# Altium schematic symbol library Chip_Passives.SchLib: 74 symbols
Pins are listed as number, name and electrical type; pins without a type are passive.

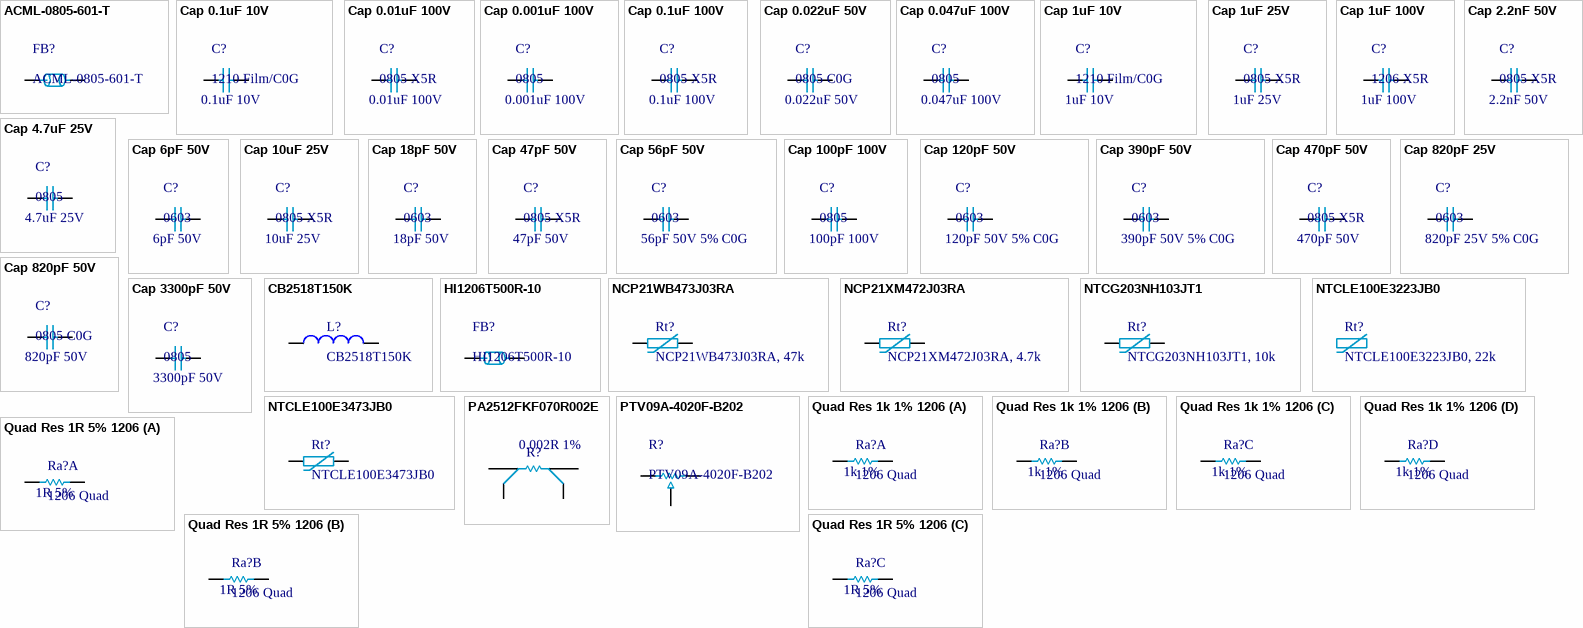
[diagram p0: symbols ACML-0805-601-T to Quad Res 1R 5% 1206]

## ACML-0805-601-T
designator FB?
FERRITE BEAD 600 OHM 0805 1LN; Value: Ferrite Bead 600R; Supplier 1: Digi-Key; Supplier Part Number 1: 535-12556-1-ND
footprint 0805 (Chip Capacitor, 2-Leads, Body 2.0x1.3mm, IPC Medium Density)
pins: 1, 2

## Cap 0.1uF 10V
designator C?, comment 1210 Film/C0G  value 0.1uF 10V
1210, Film or C0G
footprint 1210
pins: 1, 2

## Cap 0.01uF 100V
designator C?, comment 0805 X5R  value 0.01uF 100V
0805, X5R or better; Supplier 1: Digi-Key; Supplier Part Number 1: 1276-6845-2-ND; Supplier 2: Arrow; Supplier Part Number 2: HFLC7Kmwq4-6R2SVzaQAUvCwxvZH1YjWdj_EBba1ByE
footprint 0805 (Chip Capacitor, 2-Leads, Body 2.0x1.3mm, IPC Medium Density)
pins: 1, 2

## Cap 0.001uF 100V
designator C?, comment 0805  value 0.001uF 100V
0805, X5R or better; Supplier 1: Digi-Key; Supplier Part Number 1: 1276-2426-1-ND; Supplier 2: Digi-Key; Supplier Part Number 2: 1276-2426-2-ND; Supplier 3: Arrow; Supplier Part Number 3: L5XIfgkrxsBQF2sGZ85JNyFE59-nywaq7sHwLppiklbTEIlO4Ffw3x4_A6bjf4Mm
footprint 0805 (Chip Capacitor, 2-Leads, Body 2.0x1.3mm, IPC Medium Density)
pins: 1, 2

## Cap 0.1uF 100V
designator C?, comment 0805 X5R  value 0.1uF 100V
0805, X5R or better; Supplier 1: Digi-Key; Supplier Part Number 1: 1276-6840-2-ND
footprint 0805 - TALL (Same as 0805 footprint, but solder mask is adjusted to leave more paste behind for tall (>0.9mm) components like big caps, which tend to be solder-starved on the regular footprint.)
pins: 1, 2

## Cap 0.022uF 50V
designator C?, comment 0805 C0G  value 0.022uF 50V
0805, C0G; Supplier 1: Mouser; Supplier Part Number 1: 810-C2012C0G1H223J
footprint 0805 - TALL (Same as 0805 footprint, but solder mask is adjusted to leave more paste behind for tall (>0.9mm) components like big caps, which tend to be solder-starved on the regular footprint.)
pins: 1, 2

## Cap 0.047uF 100V
designator C?, comment 0805  value 0.047uF 100V
0805, X5R or better
footprint 0805 (Chip Capacitor, 2-Leads, Body 2.0x1.3mm, IPC Medium Density)
pins: 1, 2

## Cap 1uF 10V
designator C?, comment 1210 Film/C0G  value 1uF 10V
1210, Film or C0G
footprint 1210
pins: 1, 2

## Cap 1uF 25V
designator C?, comment 0805 X5R  value 1uF 25V
0805, X5R or better; Supplier 1: Digi-Key; Supplier Part Number 1: 1276-1066-2-ND; Supplier 2: Digi-Key; Supplier Part Number 2: 1276-1066-1-ND
footprint 0805 - TALL (Same as 0805 footprint, but solder mask is adjusted to leave more paste behind for tall (>0.9mm) components like big caps, which tend to be solder-starved on the regular footprint.)
pins: 1, 2

## Cap 1uF 100V
designator C?, comment 1206 X5R  value 1uF 100V
1206, X5R or better; Supplier 1: Digi-Key; Supplier Part Number 1: 1276-1838-1-ND
footprint 1206 (Chip Capacitor, 2-Leads, Body 3.2x1.6mm, IPC Medium Density)
pins: 1, 2

## Cap 2.2nF 50V
designator C?, comment 0805 X5R  value 2.2nF 50V
0805, X5R or better
footprint 0805 (Chip Capacitor, 2-Leads, Body 2.0x1.3mm, IPC Medium Density)
pins: 1, 2

## Cap 4.7uF 25V
designator C?, comment 0805  value 4.7uF 25V
0805, X5R or better; Supplier 1: Digi-Key; Supplier Part Number 1: 490-3335-2-ND; Supplier 2: Digi-Key; Supplier Part Number 2: 490-3335-1-ND
footprint 0805 (Chip Capacitor, 2-Leads, Body 2.0x1.3mm, IPC Medium Density)
pins: 1, 2

## Cap 6pF 50V
designator C?, comment 0603  value 6pF 50V
0603, X5R or better; Supplier 1: Digi-Key; Supplier Part Number 1: 1276-2134-1-ND
footprint 0603 (Chip Capacitor, 2-Leads, Body 1.6x0.8mm, IPC Medium Density)
pins: 1, 2

## Cap 10uF 25V
designator C?, comment 0805 X5R  value 10uF 25V
0805, X5R or better; Supplier 1: Mouser; Supplier Part Number 1: 81-GRM21BR61E106KA3L; Supplier 2: Digi-Key; Supplier Part Number 2: 490-5523-1-ND
footprint 0805 - TALL (Same as 0805 footprint, but solder mask is adjusted to leave more paste behind for tall (>0.9mm) components like big caps, which tend to be solder-starved on the regular footprint.)
pins: 1, 2

## Cap 18pF 50V
designator C?, comment 0603  value 18pF 50V
0603, C0G or better; Supplier 1: Digi-Key; Supplier Part Number 1: 1292-1494-1-ND
footprint 0603 (Chip Capacitor, 2-Leads, Body 1.6x0.8mm, IPC Medium Density)
pins: 1, 2

## Cap 47pF 50V
designator C?, comment 0805 X5R  value 47pF 50V
0805, X5R or better
footprint 0805 (Chip Capacitor, 2-Leads, Body 2.0x1.3mm, IPC Medium Density)
pins: 1, 2

## Cap 56pF 50V
designator C?, comment 0603  value 56pF 50V 5% C0G
0603, 5% C0G or better
footprint 0603 (Chip Capacitor, 2-Leads, Body 1.6x0.8mm, IPC Medium Density)
pins: 1, 2

## Cap 100pF 100V
designator C?, comment 0805  value 100pF 100V
0805, X5R or better; Supplier 1: Digi-Key; Supplier Part Number 1: 1276-2426-1-ND; Supplier 2: Digi-Key; Supplier Part Number 2: 1276-2426-2-ND; Supplier 3: Arrow; Supplier Part Number 3: L5XIfgkrxsBQF2sGZ85JNyFE59-nywaq7sHwLppiklbTEIlO4Ffw3x4_A6bjf4Mm
footprint 0805 (Chip Capacitor, 2-Leads, Body 2.0x1.3mm, IPC Medium Density)
pins: 1, 2

## Cap 120pF 50V
designator C?, comment 0603  value 120pF 50V 5% C0G
0603, 5% C0G or better
footprint 0603 (Chip Capacitor, 2-Leads, Body 1.6x0.8mm, IPC Medium Density)
pins: 1, 2

## Cap 390pF 50V
designator C?, comment 0603  value 390pF 50V 5% C0G
0603, 5% C0G or better
footprint 0603 (Chip Capacitor, 2-Leads, Body 1.6x0.8mm, IPC Medium Density)
pins: 1, 2

## Cap 470pF 50V
designator C?, comment 0805 X5R  value 470pF 50V
0805, X5R or better
footprint 0805 (Chip Capacitor, 2-Leads, Body 2.0x1.3mm, IPC Medium Density)
pins: 1, 2

## Cap 820pF 25V
designator C?, comment 0603  value 820pF 25V 5% C0G
0603, 5% C0G or better
footprint 0603 (Chip Capacitor, 2-Leads, Body 1.6x0.8mm, IPC Medium Density)
pins: 1, 2

## Cap 820pF 50V
designator C?, comment 0805 C0G  value 820pF 50V
0805, C0G; Supplier 1: Digi-Key; Supplier Part Number 1: 311-3382-1-ND
footprint 0805 (Chip Capacitor, 2-Leads, Body 2.0x1.3mm, IPC Medium Density)
pins: 1, 2

## Cap 3300pF 50V
designator C?, comment 0805  value 3300pF 50V
0805, X5R or better
footprint 0805 (Chip Capacitor, 2-Leads, Body 2.0x1.3mm, IPC Medium Density)
pins: 1, 2

## CB2518T150K
designator L?
15µH Unshielded Wirewound Inductor 650mA 416 mOhm Max 1007; Supplier 1: Arrow; Supplier 2: Digi-Key; Supplier Part Number 2: 587-3036-1-ND
footprint 1007 (Chip Capacitor, 2-Leads, Body 2.5x1.8mm, IPC Medium Density)
pins: 1, 2

## HI1206T500R-10
designator FB?
50 Ohms @ 100MHz 1 Power, Signal Line Ferrite Bead 1206 (3216 Metric) 6A 10mOhm; Value: Ferrite Bead 50R 6A; Supplier 1: Digi-Key; Supplier 2: Mouser; Supplier Part Number 1: 240-2412-1-ND; Supplier Part Number 2: 875-HI1206T500R-10
footprint 1206 (Chip Capacitor, 2-Leads, Body 3.2x1.6mm, IPC Medium Density)
pins: 1, 2

## NCP21WB473J03RA
designator Rt?, comment NCP21WB473J03RA, 47k
47k Thermistor, 0805; Supplier 1: Digi-Key; Supplier Part Number 1: 490-2450-1-ND; Supplier 2: Mouser; Supplier Part Number 2: 81-NCP21WB473J03RA
footprint 0805 (Chip Capacitor, 2-Leads, Body 2.0x1.3mm, IPC Medium Density)
pins: 1, 2

## NCP21XM472J03RA
designator Rt?, comment NCP21XM472J03RA, 4.7k
4.7k Thermistor, 0805; Supplier 1: Digi-Key; Supplier Part Number 1: 490-2453-1-ND; Supplier 2: Mouser; Supplier Part Number 2: 81-NCP21XM472J03RA
footprint 0805 (Chip Capacitor, 2-Leads, Body 2.0x1.3mm, IPC Medium Density)
pins: 1, 2

## NTCG203NH103JT1
designator Rt?, comment NTCG203NH103JT1, 10k
NTC Thermistor 10k 0805 (2012 Metric); Supplier 1: Digi-Key; Supplier 2: Mouser; Supplier Part Number 1: 445-175460-1-ND; Supplier Part Number 2: 810-NTCG203NH103JT1
footprint 0805 (Chip Capacitor, 2-Leads, Body 2.0x1.3mm, IPC Medium Density)
pins: 1, 2

## NTCLE100E3223JB0
designator Rt?, comment NTCLE100E3223JB0, 22k  (mechanical)
22k Thermistor, leaded; Supplier 1: Mouser; Supplier Part Number 1: 594-2381-640-63223; Supplier 2: Digi-Key; Supplier Part Number 2: BC2305-ND

## NTCLE100E3473JB0
designator Rt?
47k NTC Thermistor, B-4090K, leaded
footprint 2x1
pins: 1, 2

## PA2512FKF070R002E
designator R?  value 0.002R 1%  (hidden comment: PA2512FKF070R002E)
2mOhm current sense resistor, 2512 footprint with Kelvin sense leads; Supplier 1: Digi-Key; Supplier Part Number 1: YAG2137CT-ND; Supplier 2: Arrow; Supplier 3: Digi-Key; Supplier Part Number 3: CRE2512-FZ-R002E-2CT-ND
footprint 2512 - Kelvin
pins: 1, 2, 3, 4

## PTV09A-4020F-B202
designator R?
Potentiometer, 2k, 1/20W, Linear; Supplier 1: Digi-Key; Supplier Part Number 1: PTV09A-4020F-B202-ND; Supplier 2: Mouser; Supplier Part Number 2: 652-PTV09A-4020FB202
footprint PTV09A-4020F-B202
pins: 1, 2, 3

## Quad Res 1k 1% 1206
designator Ra?, comment 1206 Quad  value 1k 1%
Chip resistor
footprint 4x 1k 1% - CAC-80P320X160-8M (Chip Array, Concave, 8-Leads, Pitch 0.80mm,  Body 3.20x1.60mm,  IPC Low Density)
part A pins: 1, 8
part B pins: 2, 7
part C pins: 3, 6
part D pins: 4, 5

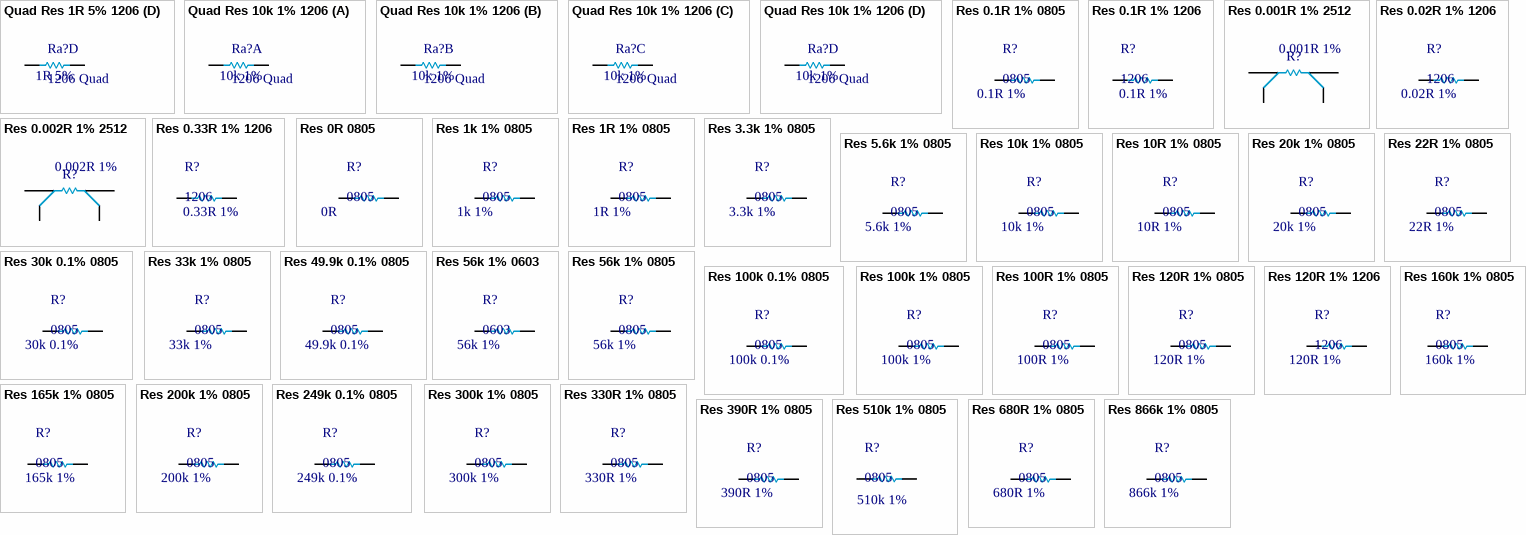
[diagram p1: symbols Quad Res 1R 5% 1206 to Res 866k 1% 0805]

## Quad Res 1R 5% 1206
designator Ra?, comment 1206 Quad  value 1R 5%
Chip resistor
footprint 4x 1R 5% - CAC-80P320X160-8M (Chip Array, Concave, 8-Leads, Pitch 0.80mm,  Body 3.20x1.60mm,  IPC Low Density)
part A pins: 1, 8
part B pins: 2, 7
part C pins: 3, 6
part D pins: 4, 5

## Quad Res 10k 1% 1206
designator Ra?, comment 1206 Quad  value 10k 1%
Chip resistor
footprint 4x 10k 1% - CAC-80P320X160-8M (Chip Array, Concave, 8-Leads, Pitch 0.80mm,  Body 3.20x1.60mm,  IPC Low Density)
part A pins: 1, 8
part B pins: 2, 7
part C pins: 3, 6
part D pins: 4, 5

## Res 0.1R 1% 0805
designator R?, comment 0805  value 0.1R 1%
Chip resistor; Supplier 1: Digi-Key; Supplier Part Number 1: 1276-6170-1-ND
footprint 0805 (Chip Capacitor, 2-Leads, Body 2.0x1.3mm, IPC Medium Density)
pins: 1, 2

## Res 0.1R 1% 1206
designator R?, comment 1206  value 0.1R 1%
Chip resistor
footprint 1206 (Chip Capacitor, 2-Leads, Body 3.2x1.6mm, IPC Medium Density)
pins: 1, 2

## Res 0.001R 1% 2512
designator R?  value 0.001R 1%  (hidden comment: Res 0.001R 1% 2512)
1mOhm current sense resistor, 2512 footprint with Kelvin sense leads; Supplier 1: Digi-Key; Supplier Part Number 1: P19416CT-ND; Supplier 2: Arrow; Supplier Part Number 2: rZdXTqnKUA9yy2kGxjRd4RwU0Sf6kaMrnQyAiVVkFPU; Supplier 3: Arrow; Supplier Part Number 3: cMy7GC_liTr71NWybmv-xuZm5W0tFSeFPdqqBWmc6XavirlhLimP3U8tVoBcLqq7; Supplier 4: Digi-Key; Supplier Part Number 4: CRE2512-FZ-R001E-3CT-ND; Supplier 5: Digi-Key; Supplier Part Number 5: CRE2512-FZ-R001E-2CT-ND; Supplier 6: Arrow; Supplier Part Number 6: cMy7GC_liTr71NWybmv-xnHqdEsvp5NBxywJzRIvnW1JrG0VV7TVIRG3c3DX7_F8
footprint 2512 - Kelvin
pins: 1, 2, 3, 4

## Res 0.02R 1% 1206
designator R?, comment 1206  value 0.02R 1%
Chip resistor; Supplier 1: Arrow; Supplier 2: Digi-Key; Supplier Part Number 1: zuFsANabD1XlxXYubvQdO05KsvwbzNdM3HLGNLFhboU; Supplier Part Number 2: 1276-6161-1-ND
footprint 1206 (Chip Capacitor, 2-Leads, Body 3.2x1.6mm, IPC Medium Density)
pins: 1, 2

## Res 0.002R 1% 2512
designator R?  value 0.002R 1%  (hidden comment: Res 0.002R 1% 2512)
2mOhm current sense resistor, 2512 footprint with Kelvin sense leads
footprint 2512 - Kelvin
pins: 1, 2, 3, 4

## Res 0.33R 1% 1206
designator R?, comment 1206  value 0.33R 1%
Chip resistor
footprint 1206 (Chip Capacitor, 2-Leads, Body 3.2x1.6mm, IPC Medium Density)
pins: 1, 2

## Res 0R 0805
designator R?, comment 0805  value 0R
Chip resistor; Supplier 1: Digi-Key; Supplier Part Number 1: RMCF0805ZT0R00TR-ND
footprint 0805 (Chip Capacitor, 2-Leads, Body 2.0x1.3mm, IPC Medium Density)
pins: 1, 2

## Res 1k 1% 0805
designator R?, comment 0805  value 1k 1%
Chip resistor, 1/8W 100PPM; Supplier 1: Digi-Key; Supplier Part Number 1: RMCF0805FT1K00TR-ND
footprint 0805 (Chip Capacitor, 2-Leads, Body 2.0x1.3mm, IPC Medium Density)
pins: 1, 2

## Res 1R 1% 0805
designator R?, comment 0805  value 1R 1%
Chip resistor; Supplier 1: Digi-Key; Supplier Part Number 1: RMCF0805FT1R00TR-ND; Supplier 2: Digi-Key; Supplier Part Number 2: RMCF0805FT1R00CT-ND
footprint 0805 (Chip Capacitor, 2-Leads, Body 2.0x1.3mm, IPC Medium Density)
pins: 1, 2

## Res 3.3k 1% 0805
designator R?, comment 0805  value 3.3k 1%
Chip resistor; Supplier 1: Digi-Key; Supplier 2: Digi-Key; Supplier Part Number 1: RMCF0805FT3K30TR-ND; Supplier Part Number 2: RMCF0805FT3K30CT-ND
footprint 0805 (Chip Capacitor, 2-Leads, Body 2.0x1.3mm, IPC Medium Density)
pins: 1, 2

## Res 5.6k 1% 0805
designator R?, comment 0805  value 5.6k 1%
Chip resistor; Supplier 1: Digi-Key; Supplier Part Number 1: RMCF0805FT5K60TR-ND; Supplier 2: Digi-Key; Supplier Part Number 2: RMCF0805FT5K60CT-ND
footprint 0805 (Chip Capacitor, 2-Leads, Body 2.0x1.3mm, IPC Medium Density)
pins: 1, 2

## Res 10k 1% 0805
designator R?, comment 0805  value 10k 1%
Chip resistor; Supplier 1: Digi-Key; Supplier Part Number 1: RMCF0805FT10K0TR-ND
footprint 0805 (Chip Capacitor, 2-Leads, Body 2.0x1.3mm, IPC Medium Density)
pins: 1, 2

## Res 10R 1% 0805
designator R?, comment 0805  value 10R 1%
Chip resistor; Supplier 1: Digi-Key; Supplier Part Number 1: RMCF0805FT10R0TR-ND
footprint 0805 (Chip Capacitor, 2-Leads, Body 2.0x1.3mm, IPC Medium Density)
pins: 1, 2

## Res 20k 1% 0805
designator R?, comment 0805  value 20k 1%
Chip resistor; Supplier 1: Digi-Key; Supplier 2: Digi-Key; Supplier Part Number 1: RMCF0805FT20K0TR-ND; Supplier Part Number 2: RMCF0805FT20K0CT-ND
footprint 0805 (Chip Capacitor, 2-Leads, Body 2.0x1.3mm, IPC Medium Density)
pins: 1, 2

## Res 22R 1% 0805
designator R?, comment 0805  value 22R 1%
Chip resistor; Supplier 1: Digi-Key; Supplier 2: Arrow; Supplier Part Number 1: RMCF0805FT22R0CT-ND; Supplier Part Number 2: RMCF0805FT22R0
footprint 0805 (Chip Capacitor, 2-Leads, Body 2.0x1.3mm, IPC Medium Density)
pins: 1, 2

## Res 30k 0.1% 0805
designator R?, comment 0805  value 30k 0.1%
Chip resistor; Supplier 1: Arrow; Supplier Part Number 1: 9OeC0DUXUKJ2EZdeRUj86nhhSQ9j-Q4a_m-pbZ_OSkQ; Supplier 2: Digi-Key; Supplier Part Number 2: P30KDACT-ND
footprint 0805 (Chip Capacitor, 2-Leads, Body 2.0x1.3mm, IPC Medium Density)
pins: 1, 2

## Res 33k 1% 0805
designator R?, comment 0805  value 33k 1%
Chip resistor; Supplier 1: Digi-Key; Supplier 2: Digi-Key; Supplier Part Number 1: RMCF0805FT33K0TR-ND; Supplier Part Number 2: RMCF0805FT33K0CT-ND
footprint 0805 (Chip Capacitor, 2-Leads, Body 2.0x1.3mm, IPC Medium Density)
pins: 1, 2

## Res 49.9k 0.1% 0805
designator R?, comment 0805  value 49.9k 0.1%
Chip resistor; Supplier 1: Digi-Key; Supplier Part Number 1: P49.9KDACT-ND; Supplier 2: Arrow; Supplier Part Number 2: 9OeC0DUXUKJ2EZdeRUj86k7f5syKCuajPnJ1_1nuqQY
footprint 0805 (Chip Capacitor, 2-Leads, Body 2.0x1.3mm, IPC Medium Density)
pins: 1, 2

## Res 56k 1% 0603
designator R?, comment 0603  value 56k 1%
Chip resistor
footprint 0603 (Chip Capacitor, 2-Leads, Body 1.6x0.8mm, IPC Medium Density)
pins: 1, 2

## Res 56k 1% 0805
designator R?, comment 0805  value 56k 1%
Chip resistor
footprint 0805 (Chip Capacitor, 2-Leads, Body 2.0x1.3mm, IPC Medium Density)
pins: 1, 2

## Res 100k 0.1% 0805
designator R?, comment 0805  value 100k 0.1%
Chip resistor; Supplier 1: Digi-Key; Supplier Part Number 1: P100KDACT-ND; Supplier 2: Arrow; Supplier Part Number 2: 9OeC0DUXUKJ2EZdeRUj86o_XuPCKHvYbj4bRasCuPas
footprint 0805 (Chip Capacitor, 2-Leads, Body 2.0x1.3mm, IPC Medium Density)
pins: 1, 2

## Res 100k 1% 0805
designator R?, comment 0805  value 100k 1%
Chip resistor; Supplier 1: Digi-Key; Supplier 2: Digi-Key; Supplier Part Number 1: RMCF0805FT100KTR-ND; Supplier Part Number 2: RMCF0805FT100KCT-ND
footprint 0805 (Chip Capacitor, 2-Leads, Body 2.0x1.3mm, IPC Medium Density)
pins: 1, 2

## Res 100R 1% 0805
designator R?, comment 0805  value 100R 1%
Chip resistor; Supplier 1: Digi-Key; Supplier 2: Digi-Key; Supplier Part Number 1: RMCF0805FT100RCT-ND; Supplier Part Number 2: RMCF0805FT100RTR-ND
footprint 0805 (Chip Capacitor, 2-Leads, Body 2.0x1.3mm, IPC Medium Density)
pins: 1, 2

## Res 120R 1% 0805
designator R?, comment 0805  value 120R 1%
Res 120R 1% 0805; Supplier 1: Digi-Key; Supplier 2: Digi-Key; Supplier Part Number 1: RMCF0805FT100RCT-ND; Supplier Part Number 2: RMCF0805FT100RTR-ND
footprint 0805 (Chip Capacitor, 2-Leads, Body 2.0x1.3mm, IPC Medium Density)
pins: 1, 2

## Res 120R 1% 1206
designator R?, comment 1206  value 120R 1%
Chip resistor; Supplier 1: Digi-Key; Supplier Part Number 1: RMCF1206FT120RTR-ND; Supplier 2: Digi-Key; Supplier Part Number 2: RMCF1206FT120RCT-ND
footprint 1206 (Chip Capacitor, 2-Leads, Body 3.2x1.6mm, IPC Medium Density)
pins: 1, 2

## Res 160k 1% 0805
designator R?, comment 0805  value 160k 1%
Chip resistor
footprint 0805 (Chip Capacitor, 2-Leads, Body 2.0x1.3mm, IPC Medium Density)
pins: 1, 2

## Res 165k 1% 0805
designator R?, comment 0805  value 165k 1%
Chip resistor; Supplier 1: Digi-Key; Supplier 2: Digi-Key; Supplier Part Number 1: RMCF0805FT165KCT-ND; Supplier Part Number 2: RMCF0805FT165KTR-ND
footprint 0805 (Chip Capacitor, 2-Leads, Body 2.0x1.3mm, IPC Medium Density)
pins: 1, 2

## Res 200k 1% 0805
designator R?, comment 0805  value 200k 1%
Chip resistor; Supplier 1: Digi-Key; Supplier 2: Digi-Key; Supplier Part Number 1: RMCF0805FT200KTR-ND; Supplier Part Number 2: RMCF0805FT200KCT-ND
footprint 0805 (Chip Capacitor, 2-Leads, Body 2.0x1.3mm, IPC Medium Density)
pins: 1, 2

## Res 249k 0.1% 0805
designator R?, comment 0805  value 249k 0.1%
Chip resistor; Supplier 1: Arrow; Supplier Part Number 1: ev7j5GCgGZm_hHX13MT9UB2y7gZvCbN9TMpz0Qi6Bo4; Supplier 2: Digi-Key; Supplier Part Number 2: YAG1839CT-ND; Supplier 3: Arrow; Supplier Part Number 3: 9OeC0DUXUKJ2EZdeRUj86lb_NVwlpEwden27Mu2BSXk; Supplier 4: Digi-Key; Supplier Part Number 4: P249KDACT-ND
footprint 0805 (Chip Capacitor, 2-Leads, Body 2.0x1.3mm, IPC Medium Density)
pins: 1, 2

## Res 300k 1% 0805
designator R?, comment 0805  value 300k 1%
Chip resistor; Supplier 1: Digi-Key; Supplier 2: Digi-Key; Supplier Part Number 1: RMCF0805FT300KTR-ND; Supplier Part Number 2: RMCF0805FT300KCT-ND
footprint 0805 (Chip Capacitor, 2-Leads, Body 2.0x1.3mm, IPC Medium Density)
pins: 1, 2

## Res 330R 1% 0805
designator R?, comment 0805  value 330R 1%
Chip resistor; Supplier 1: Digi-Key; Supplier Part Number 1: 311-330CRTR-ND
footprint 0805 (Chip Capacitor, 2-Leads, Body 2.0x1.3mm, IPC Medium Density)
pins: 1, 2

## Res 390R 1% 0805
designator R?, comment 0805  value 390R 1%
Chip resistor; Supplier 1: Digi-Key; Supplier Part Number 1: RMCF0805FT390RTR-ND; Supplier 2: Digi-Key; Supplier Part Number 2: RMCF0805FT390RCT-ND
footprint 0805 (Chip Capacitor, 2-Leads, Body 2.0x1.3mm, IPC Medium Density)
pins: 1, 2

## Res 510k 1% 0805
designator R?, comment 0805  value 510k 1%
Chip resistor; Supplier 1: Digi-Key; Supplier 2: Digi-Key; Supplier Part Number 1: RMCF0805FT100KTR-ND; Supplier Part Number 2: RMCF0805FT100KCT-ND
footprint 0805 (Chip Capacitor, 2-Leads, Body 2.0x1.3mm, IPC Medium Density)
pins: 1, 2

## Res 680R 1% 0805
designator R?, comment 0805  value 680R 1%
Chip resistor; Supplier 1: Digi-Key; Supplier Part Number 1: RMCF0805FT680RTR-ND; Supplier 2: Digi-Key; Supplier Part Number 2: RMCF0805FT680RCT-ND
footprint 0805 (Chip Capacitor, 2-Leads, Body 2.0x1.3mm, IPC Medium Density)
pins: 1, 2

## Res 866k 1% 0805
designator R?, comment 0805  value 866k 1%
Chip resistor; Supplier 1: Digi-Key; Supplier 2: Digi-Key; Supplier Part Number 1: RMCF0805FT866KTR-ND; Supplier Part Number 2: RMCF0805FT866KCT-ND
footprint 0805 (Chip Capacitor, 2-Leads, Body 2.0x1.3mm, IPC Medium Density)
pins: 1, 2

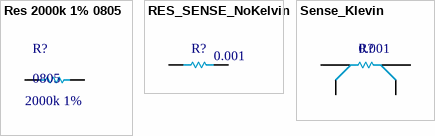
[diagram p2: symbols Res 2000k 1% 0805 to Sense_Klevin]

## Res 2000k 1% 0805
designator R?, comment 0805  value 2000k 1%
Chip resistor; Supplier 1: Digi-Key; Supplier 2: Digi-Key; Supplier Part Number 1: RMCF0805FT2M00CT-ND; Supplier Part Number 2: RMCF0805FT2M00TR-ND
footprint 0805 (Chip Capacitor, 2-Leads, Body 2.0x1.3mm, IPC Medium Density)
pins: 1, 2

## RES_SENSE_NoKelvin
designator R?, comment value 0.001  (hidden comment: LMRA)
LMRA Sense resistor, 1206/2512-compatible footprint; Supplier 1: Digi-Key; Supplier Part Number 1: 985-1556-1-ND; Supplier 2: Mouser; Supplier Part Number 2: 756-LRMAP2512R001FT4
footprint 2512
pins: 1, 2

## Sense_Klevin
designator R?, comment value 0.001  (hidden comment: LRMAP2512R001FT4)
1mOhm current sense resistor, 2512 footprint with Kelvin sense leads; Supplier 1: Digi-Key; Supplier Part Number 1: 985-1556-1-ND; Supplier 2: Mouser; Supplier Part Number 2: 756-LRMAP2512R001FT4
footprint 2512 - Kelvin
pins: 1, 2, 3, 4